# Altium schematic symbol library ee_453_Schulz.SchLib: 69 symbols
Pins are listed as number, name and electrical type; pins without a type are passive.

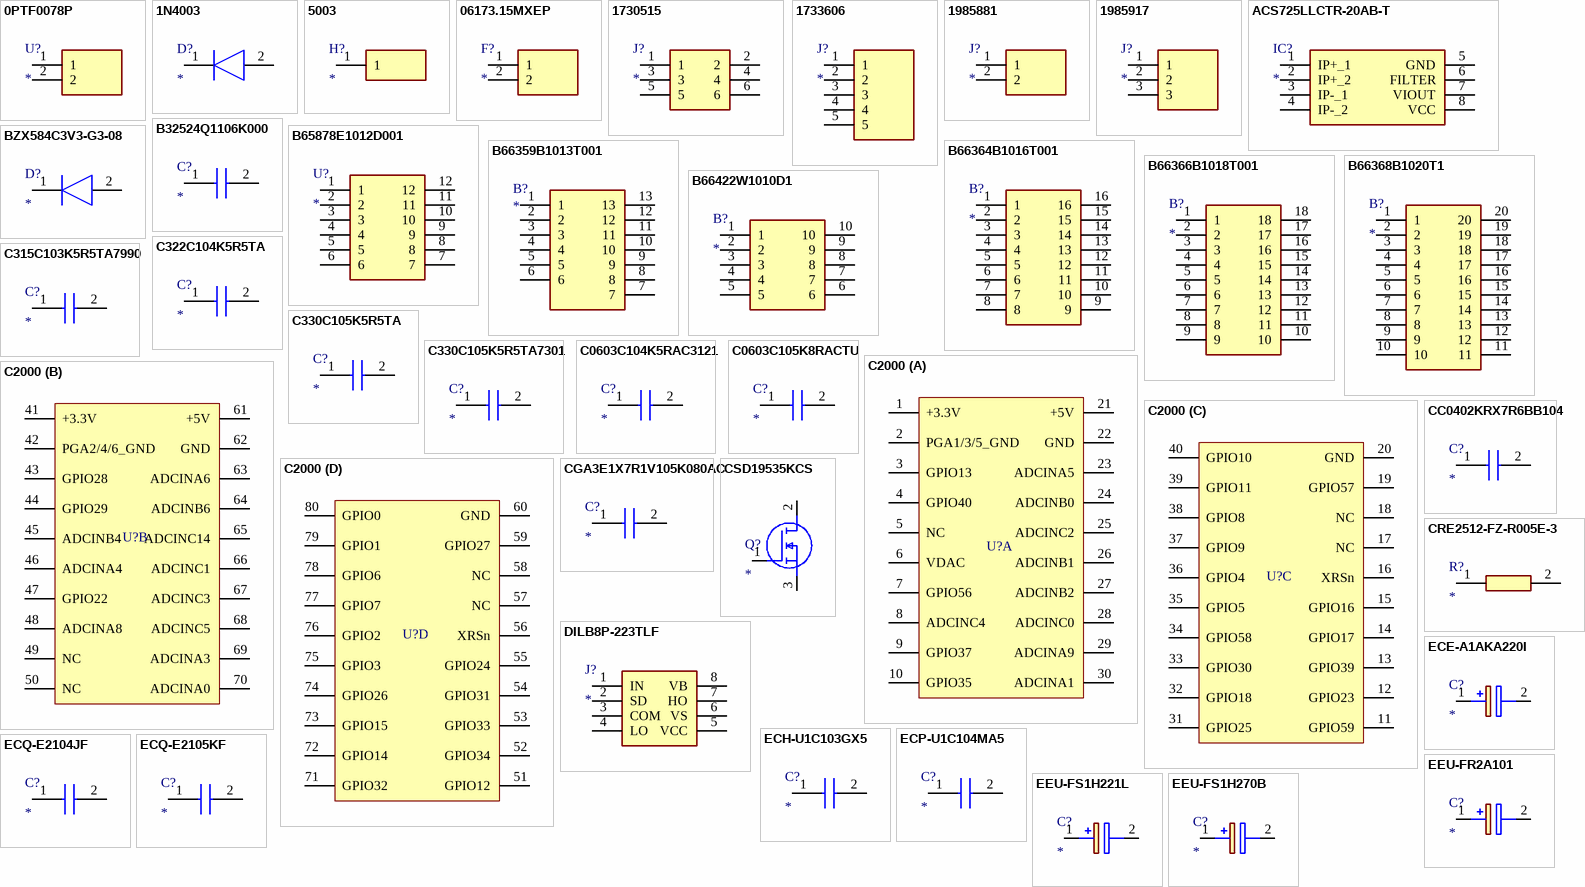
[diagram p0: symbols 0PTF0078P to EEU-FS1H270B]

## 0PTF0078P
designator U?
Undefined or Miscellaneous; Manufacturer_Name: LITTELFUSE; Manufacturer_Part_Number: 0PTF0078P; Datasheet Link: https://media.digikey.com/pdf/Data%20Sheets/Littelfuse%20PDFs/PTF075_77_78.pdf; Height: 11.5mm; Mouser Part Number: 576-0PTF0078P; Mouser Price/Stock: https://www.mouser.com/Search/Refine.aspx?Keyword=576-0PTF0078P; RS Part Number: 1740656; RS Price/Stock: http://uk.rs-online.com/web/p/products/1740656
footprint 0PTF0078P
pins: 1, 2

## 1N4003
designator D?
Diode; Manufacturer_Name: ON Semiconductor; Manufacturer_Part_Number: 1N4003; Datasheet Link: http://docs-emea.rs-online.com/webdocs/10c0/0900766b810c07cd.pdf; Mouser Part Number: 512-1N4003; Mouser Price/Stock: http://www.mouser.com/Search/ProductDetail.aspx?qs=PKwgOmPR8%252bn6tj%252bW%252bQZQFA%3d%3d; RS Part Number: 7596674P; RS Price/Stock: http://uk.rs-online.com/web/p/products/7596674P
footprint DIOAD1413W86L463D238
pins: 1 K, 2 A

## 5003
designator H?
Hardware; Manufacturer_Name: Keystone Electronics; Manufacturer_Part_Number: 5003; Allied_Number: 70799414; Datasheet Link: https://componentsearchengine.com/Datasheets/1/5003.pdf; Height: 4.57mm; Mouser Part Number: 534-5003; Mouser Price/Stock: https://www.mouser.com/Search/Refine.aspx?Keyword=534-5003; Allied Price/Stock: https://www.alliedelec.com/keystoneelectronics-5003/70799414/
footprint 5003
pins: 1

## 06173.15MXEP
designator F?
Fuse; Manufacturer_Name: LITTELFUSE; Manufacturer_Part_Number: 06173.15MXEP; Datasheet Link: https://componentsearchengine.com/Datasheets/1/06173.15MXEP.pdf; Height: 5.8mm; Mouser Part Number: 576-06173.15MXEP; Mouser Price/Stock: https://www.mouser.com/Search/Refine.aspx?Keyword=576-06173.15MXEP
footprint 0617315MXEP
pins: 1, 2

## 1730515
designator J?
Connector; Manufacturer_Name: Phoenix Contact; Manufacturer_Part_Number: 1730515; Allied_Number: 71065041; Datasheet Link: https://media.digikey.com/PDF/Data%20Sheets/Phoenix%20Contact%20PDFs/1730515.pdf; Height: 18mm; Mouser Part Number: 651-1730515; Mouser Price/Stock: https://www.mouser.com/Search/Refine.aspx?Keyword=651-1730515; Allied Price/Stock: https://www.alliedelec.com/phoenixcontact-1730515/71065041/
footprint 1730515
pins: 1, 2, 3, 4, 5, 6

## 1733606
designator J?
Connector; Manufacturer_Name: Phoenix Contact; Manufacturer_Part_Number: 1733606; Datasheet Link: https://www.phoenixcontact.com/online/portal/gb/?uri=pxc-oc-itemdetail:pid=1733606&library=gben&pcck=P-11-01-05&tab=1&selectedCategory=ALL; Height: 15.3mm; Mouser Part Number: 651-1733606; Mouser Price/Stock: https://www.mouser.com/Search/Refine.aspx?Keyword=651-1733606; RS Part Number: 8818799; RS Price/Stock: https://uk.rs-online.com/web/p/products/8818799
footprint SHDR5W110P0X500_1X5_2532X7360X1530P
pins: 1, 2, 3, 4, 5

## 1985881
designator J?
Connector; Manufacturer_Name: Phoenix Contact; Manufacturer_Part_Number: 1985881; Allied_Number: 70353630; Datasheet Link: https://www.phoenixcontact.com/online/portal/us?uri=pxc-oc-itemdetail:pid=1985881&library=usen&tab=1; Height: 13.9mm; Mouser Part Number: 651-1985881; Mouser Price/Stock: https://www.mouser.com/Search/Refine.aspx?Keyword=651-1985881; RS Part Number: 4670338; RS Price/Stock: http://uk.rs-online.com/web/p/products/4670338; Allied Price/Stock: https://www.alliedelec.com/phoenixcontact-1985881/70353630/
footprint SHDR2W110P0X500_1X2_1000X985X1390P
pins: 1, 2

## 1985917
designator J?
Connector; Manufacturer_Name: Phoenix Contact; Manufacturer_Part_Number: 1985917; Allied_Number: 70353658; Datasheet Link: https://media.digikey.com/pdf/Data%20Sheets/Phoenix%20Contact%20PDFs/Multi-Postion%20PCTerminal%20Blocks.pdf; Height: 13.95mm; Mouser Part Number: 651-1985917; Mouser Price/Stock: https://www.mouser.com/Search/Refine.aspx?Keyword=651-1985917; RS Part Number: 8552938; RS Price/Stock: http://uk.rs-online.com/web/p/products/8552938; Allied Price/Stock: https://www.alliedelec.com/phoenixcontact-1985917/70353658/
footprint 1985917
pins: 1, 2, 3

## ACS725LLCTR-20AB-T
designator IC?
Integrated Circuit; Manufacturer_Name: Allegro Microsystems; Manufacturer_Part_Number: ACS725LLCTR-20AB-T; Datasheet Link: https://www.allegromicro.com/~/media/Files/Datasheets/ACS725-Datasheet.ashx; Height: 1.75mm
footprint SOT127P600X175-8N
pins: 1 IP+_1, 2 IP+_2, 3 IP-_1, 4 IP-_2, 5 GND, 6 FILTER, 7 VIOUT, 8 VCC

## B32524Q1106K000
designator C?
Capacitor; Manufacturer_Name: EPCOS; Manufacturer_Part_Number: B32524Q1106K000; Datasheet Link: https://componentsearchengine.com/Datasheets/1/B32524Q1106K000.pdf; Height: 21mm; Mouser Part Number: 871-B32524Q1106K; Mouser Price/Stock: https://www.mouser.com/Search/Refine.aspx?Keyword=871-B32524Q1106K; RS Part Number: 1913137P; RS Price/Stock: http://uk.rs-online.com/web/p/products/1913137P
footprint B32524Q1106K000
pins: 1, 2

## B65878E1012D001
designator U?
Undefined or Miscellaneous; Manufacturer_Name: EPCOS; Manufacturer_Part_Number: B65878E1012D001; Datasheet Link: http://www.mouser.com/datasheet/2/400/pq_26_25-1280911.pdf; Height: 29.3mm; Mouser Part Number: 871-B65878E1012D001; Mouser Price/Stock: https://www.mouser.com/Search/Refine.aspx?Keyword=871-B65878E1012D001; RS Part Number: 1253423; RS Price/Stock: http://uk.rs-online.com/web/p/products/1253423
footprint B65878E1012D001
pins: 1, 2, 3, 4, 5, 6, 7, 8, 9, 10, 11, 12

## B66359B1013T001
designator B?
Bobbin; Manufacturer_Name: EPCOS; Manufacturer_Part_Number: B66359B1013T001; Datasheet Link: https://componentsearchengine.com/Datasheets/1/B66359B1013T001.pdf; Height: 25mm; Mouser2 Part Number: 871-B66359B1013T001; Mouser2 Price/Stock: https://www.mouser.com/Search/Refine.aspx?Keyword=871-B66359B1013T001
footprint B66359B1013T001
pins: 1, 2, 3, 4, 5, 6, 7, 8, 9, 10, 11, 12, 13

## B66364B1016T001
designator B?
Bobbin; Manufacturer_Name: EPCOS; Manufacturer_Part_Number: B66364B1016T001; Datasheet Link: https://componentsearchengine.com/Datasheets/1/B66364B1016T001.pdf; Height: 35.5mm; Mouser2 Part Number: 871-B66364B1016T001; Mouser2 Price/Stock: https://www.mouser.com/Search/Refine.aspx?Keyword=871-B66364B1016T001
footprint B66364B1016T001
pins: 1, 2, 3, 4, 5, 6, 7, 8, 9, 10, 11, 12, 13, 14, 15, 16

## B66366B1018T001
designator B?
Bobbin; Manufacturer_Name: EPCOS; Manufacturer_Part_Number: B66366B1018T001; Datasheet Link: http://uk.rs-online.com/web/p/products/1620179; Height: 38.4mm; RS Part Number: 1620179; RS Price/Stock: http://uk.rs-online.com/web/p/products/1620179
footprint B66366B1018T001
pins: 1, 2, 3, 4, 5, 6, 7, 8, 9, 10, 11, 12, 13, 14, 15, 16, 17, 18

## B66368B1020T1
designator B?
Bobbin; Manufacturer_Name: EPCOS; Manufacturer_Part_Number: B66368B1020T1; Datasheet Link: https://componentsearchengine.com/Datasheets/1/B66368B1020T1.pdf; Height: 40.9mm; Mouser2 Part Number: 871-B66368B1020T1; Mouser2 Price/Stock: https://www.mouser.com/Search/Refine.aspx?Keyword=871-B66368B1020T1
footprint B66368B1020T1
pins: 1, 2, 3, 4, 5, 6, 7, 8, 9, 10, 11, 12, 13, 14, 15, 16, 17, 18, 19, 20

## B66422W1010D1
designator B?
Bobbin; Manufacturer_Name: EPCOS; Manufacturer_Part_Number: B66422W1010D1; Datasheet Link: https://componentsearchengine.com/Datasheets/1/B66422W1010D1.pdf; Height: 12mm; Mouser2 Part Number: 871-B66422W1010D1; Mouser2 Price/Stock: https://www.mouser.com/Search/Refine.aspx?Keyword=871-B66422W1010D1
footprint B66422W1010D1
pins: 1, 2, 3, 4, 5, 6, 7, 8, 9, 10

## BZX584C3V3-G3-08
designator D?
Diode; Manufacturer_Name: Vishay; Manufacturer_Part_Number: BZX584C3V3-G3-08; Datasheet Link: https://componentsearchengine.com/Datasheets/1/BZX584C3V3-G3-08.pdf; Height: 0.75mm; Mouser Part Number: 78-BZX584C3V3-G3-08; Mouser Price/Stock: https://www.mouser.com/Search/Refine.aspx?Keyword=78-BZX584C3V3-G3-08
footprint SODFL1608X75N
pins: 1 K, 2 A

## C315C103K5R5TA7990
designator C?
Capacitor; Manufacturer_Name: Kemet; Manufacturer_Part_Number: C315C103K5R5TA7990; Datasheet Link: https://api.kemet.com/component-edge/download/datasheet/C315C103K5R5TA.pdf; Height: 4.66mm; Mouser Part Number: N/A; Mouser Price/Stock: https://www.mouser.com/Search/Refine.aspx?Keyword=N%2FA
footprint C315C103K5R5TA7990
pins: 1, 2

## C322C104K5R5TA
designator C?
Capacitor; Manufacturer_Name: Kemet; Manufacturer_Part_Number: C322C104K5R5TA; Datasheet Link: https://docs-emea.rs-online.com/webdocs/1517/0900766b815170eb.pdf; Mouser Part Number: 80-C322C104K5R; Mouser Price/Stock: https://www.mouser.com/Search/Refine.aspx?Keyword=80-C322C104K5R; RS Part Number: 5381433P; RS Price/Stock: http://uk.rs-online.com/web/p/products/5381433P
footprint C322 (Footprint not found)
pins: 1, 2

## C330C105K5R5TA
designator C?
Capacitor; Manufacturer_Name: Kemet; Manufacturer_Part_Number: C330C105K5R5TA; Datasheet Link: http://uk.rs-online.com/web/p/products/8704038; Height: 9mm; Mouser Part Number: 80-C330C105K5R; Mouser Price/Stock: https://www.mouser.com/Search/Refine.aspx?Keyword=80-C330C105K5R; RS Part Number: 8704038; RS Price/Stock: http://uk.rs-online.com/web/p/products/8704038
footprint C330C105K5R5TA
pins: 1, 2

## C330C105K5R5TA7301
designator C?
Capacitor; Manufacturer_Name: Kemet; Manufacturer_Part_Number: C330C105K5R5TA7301; Datasheet Link: https://api.kemet.com/component-edge/download/specsheet/C330C105K5R5TA7301.pdf; Height: 9.14mm; Mouser Part Number: 80-C330C105K5R7301; Mouser Price/Stock: https://www.mouser.com/Search/Refine.aspx?Keyword=80-C330C105K5R7301
footprint C330C105K5R5TA7301
pins: 1, 2

## C0603C104K5RAC3121
designator C?
Capacitor; Manufacturer_Name: Kemet; Manufacturer_Part_Number: C0603C104K5RAC3121; Datasheet Link: https://mouser.componentsearchengine.com/Datasheets/1/C0603C104K5RAC3121.pdf; Height: 0.95mm; Mouser Part Number: 80-C603C104K5RAC3121; Mouser Price/Stock: https://www.mouser.com/Search/Refine.aspx?Keyword=80-C603C104K5RAC3121
footprint CAPC1608X95N
pins: 1, 2

## C0603C105K8RACTU
designator C?
Capacitor; Manufacturer_Name: Kemet; Manufacturer_Part_Number: C0603C105K8RACTU; Datasheet Link: https://componentsearchengine.com/Datasheets/1/C0603C105K8RACTU.pdf; Height: 0.87mm; Mouser Part Number: 80-C0603C105K8R; Mouser Price/Stock: https://www.mouser.com/Search/Refine.aspx?Keyword=80-C0603C105K8R; RS Part Number: 1806417; RS Price/Stock: http://uk.rs-online.com/web/p/products/1806417
footprint CAPC1608X87N
pins: 1, 2

## C2000
designator U?
F280049C; Parameter 1: test 2
footprint PCBComponent_1
footprint C2000
part A pins: 1 +3.3V, 2 PGA1/3/5_GND, 3 GPIO13, 4 GPIO40, 5 NC, 6 VDAC, 7 GPIO56, 8 ADCINC4, 9 GPIO37, 10 GPIO35, 21 +5V, 22 GND, 23 ADCINA5, 24 ADCINB0, 25 ADCINC2, 26 ADCINB1, 27 ADCINB2, 28 ADCINC0, 29 ADCINA9, 30 ADCINA1
part B pins: 41 +3.3V, 42 PGA2/4/6_GND, 43 GPIO28, 44 GPIO29, 45 ADCINB4, 46 ADCINA4, 47 GPIO22, 48 ADCINA8, 49 NC, 50 NC, 61 +5V, 62 GND, 63 ADCINA6, 64 ADCINB6, 65 ADCINC14, 66 ADCINC1, 67 ADCINC3, 68 ADCINC5, 69 ADCINA3, 70 ADCINA0
part C pins: 11 GPIO59, 12 GPIO23, 13 GPIO39, 14 GPIO17, 15 GPIO16, 16 XRSn, 17 NC, 18 NC, 19 GPIO57, 20 GND, 31 GPIO25, 32 GPIO18, 33 GPIO30, 34 GPIO58, 35 GPIO5, 36 GPIO4, 37 GPIO9, 38 GPIO8, 39 GPIO11, 40 GPIO10
part D pins: 51 GPIO12, 52 GPIO34, 53 GPIO33, 54 GPIO31, 55 GPIO24, 56 XRSn, 57 NC, 58 NC, 59 GPIO27, 60 GND, 71 GPIO32, 72 GPIO14, 73 GPIO15, 74 GPIO26, 75 GPIO3, 76 GPIO2, 77 GPIO7, 78 GPIO6, 79 GPIO1, 80 GPIO0

## CC0402KRX7R6BB104
designator C?
Capacitor; Manufacturer_Name: YAGEO (PHYCOMP); Manufacturer_Part_Number: CC0402KRX7R6BB104; Datasheet Link: https://www.mouser.com/datasheet/2/447/UPY-GPHC_X7R_6.3V-to-50V_18-1154002.pdf; Height: 0.55mm; Mouser Part Number: 603-CC402KRX7R6BB104; Mouser Price/Stock: https://www.mouser.com/Search/Refine.aspx?Keyword=603-CC402KRX7R6BB104; RS Part Number: 6698690; RS Price/Stock: http://uk.rs-online.com/web/p/products/6698690
footprint CAPC1005X55N
pins: 1, 2

## CGA3E1X7R1V105K080AC
designator C?
Capacitor; Manufacturer_Name: TDK; Manufacturer_Part_Number: CGA3E1X7R1V105K080AC; Datasheet Link: http://docs-emea.rs-online.com/webdocs/14e9/0900766b814e9125.pdf; Height: 0.9mm; Mouser Part Number: 810-CGA3E1X7R1V105KC; Mouser Price/Stock: https://www.mouser.com/Search/Refine.aspx?Keyword=810-CGA3E1X7R1V105KC; RS Part Number: 1796000; RS Price/Stock: http://uk.rs-online.com/web/p/products/1796000
footprint CAPC1608X90N
pins: 1, 2

## CRE2512-FZ-R005E-3
designator R?
Resistor; Manufacturer_Name: Bourns; Manufacturer_Part_Number: CRE2512-FZ-R005E-3; Allied_Number: 70418758; Datasheet Link: https://www.mouser.com/datasheet/2/54/re-1388683.pdf; Height: 0.7mm; Mouser Part Number: 652-CRE2512FZR005E-3; Mouser Price/Stock: https://www.mouser.com/Search/Refine.aspx?Keyword=652-CRE2512FZR005E-3; RS Part Number: 1825562P; RS Price/Stock: http://uk.rs-online.com/web/p/products/1825562P; Allied Price/Stock: https://www.alliedelec.com/bourns-cre2512-fz-r005e-3/70418758/
footprint CRE2512FZR005E3
pins: 1, 2

## CSD19535KCS
designator Q?
MOSFET (N-Channel); Manufacturer_Name: Texas Instruments; Manufacturer_Part_Number: CSD19535KCS; Datasheet Link: http://www.ti.com/lit/gpn/csd19535kcs; Height: 4.7mm; Mouser Part Number: 595-CSD19535KCS; Mouser Price/Stock: https://www.mouser.com/Search/Refine.aspx?Keyword=595-CSD19535KCS; RS Part Number: 8274915P; RS Price/Stock: http://uk.rs-online.com/web/p/products/8274915P
footprint TO254P470X1016X2016-3P
pins: 1 G, 2 D, 3 S

## DILB8P-223TLF
designator J?
Connector; Manufacturer_Name: Amphenol; Manufacturer_Part_Number: DILB8P-223TLF; Datasheet Link: https://componentsearchengine.com/Datasheets/1/DILB8P-223TLF.pdf; Height: 5.25mm; Mouser2 Part Number: 649-DILB8P223TLF; Mouser2 Price/Stock: https://www.mouser.com/Search/Refine.aspx?Keyword=649-DILB8P223TLF
footprint DIPS762W60P254L1016H525Q8N
pins: 1 IN, 2 SD, 3 COM, 4 LO, 5 VCC, 6 VS, 7 HO, 8 VB

## ECE-A1AKA220I
designator C?
Capacitor Polarised; Manufacturer_Name: Panasonic; Manufacturer_Part_Number: ECE-A1AKA220I; Datasheet Link: https://componentsearchengine.com/Datasheets/1/ECE-A1AKA220I.pdf; Height: 8mm; Mouser Part Number: 667-ECE-A1AKA220I; Mouser Price/Stock: https://www.mouser.com/Search/Refine.aspx?Keyword=667-ECE-A1AKA220I
footprint CAPPRD250W50D800H800
pins: 1 +, 2 -

## ECH-U1C103GX5
designator C?
Capacitor; Manufacturer_Name: Panasonic; Manufacturer_Part_Number: ECH-U1C103GX5; Datasheet Link: http://docs-emea.rs-online.com/webdocs/14b7/0900766b814b7a21.pdf; Height: 1.3mm; Mouser Part Number: 667-ECH-U1C103GX5; Mouser Price/Stock: https://www.mouser.com/Search/Refine.aspx?Keyword=667-ECH-U1C103GX5
footprint CAPC2012X130N
pins: 1, 2

## ECP-U1C104MA5
designator C?
Capacitor; Manufacturer_Name: Panasonic; Manufacturer_Part_Number: ECP-U1C104MA5; Allied_Number: 70349164; Datasheet Link: https://componentsearchengine.com/Datasheets/1/ECP-U1C104MA5.pdf; Height: 1.1mm; Mouser Part Number: 667-ECP-U1C104MA5; Mouser Price/Stock: https://www.mouser.com/Search/Refine.aspx?Keyword=667-ECP-U1C104MA5; Allied Price/Stock: https://www.alliedelec.com/panasonic-ecpu1c104ma5/70349164/
footprint CAPC2012X110N
pins: 1, 2

## ECQ-E2104JF
designator C?
Capacitor; Manufacturer_Name: Panasonic; Manufacturer_Part_Number: ECQ-E2104JF; Allied_Number: 70260012; Datasheet Link: http://industrial.panasonic.com/www-cgi/jvcr13pz.cgi?E+PZ+4+ABD0023+ECQE2104JF+8+WW; Height: 13.4mm; Mouser Part Number: 667-ECQ-E2104JF; Mouser Price/Stock: https://www.mouser.com/Search/Refine.aspx?Keyword=667-ECQ-E2104JF; Allied Price/Stock: https://www.alliedelec.com/panasonic-ecq-e2104jf/70260012/
footprint ECQE2104JF
pins: 1, 2

## ECQ-E2105KF
designator C?
Capacitor; Manufacturer_Name: Panasonic; Manufacturer_Part_Number: ECQ-E2105KF; Datasheet Link: https://industrial.panasonic.com/cdbs/www-data/pdf/RDI0000/ABD0000C179.pdf; Height: 15mm; Mouser Part Number: 667-ECQ-E2105KF; Mouser Price/Stock: https://www.mouser.com/Search/Refine.aspx?Keyword=667-ECQ-E2105KF
footprint ECQE2105KF
pins: 1, 2

## EEU-FR2A101
designator C?
Capacitor Polarised; Manufacturer_Name: Panasonic; Manufacturer_Part_Number: EEU-FR2A101; Datasheet Link: https://industrial.panasonic.com/cdbs/www-data/pdf/RDF0000/ABA0000C1259.pdf; Height: 22mm; Mouser Part Number: 667-EEU-FR2A101; Mouser Price/Stock: https://www.mouser.com/Search/Refine.aspx?Keyword=667-EEU-FR2A101
footprint CAPPRD500W65D1000H2200
pins: 1 +, 2 -

## EEU-FS1H221L
designator C?
Capacitor Polarised; Manufacturer_Name: Panasonic; Manufacturer_Part_Number: EEU-FS1H221L; Datasheet Link: https://componentsearchengine.com/Datasheets/1/EEU-FS1H221L.pdf; Height: 22mm; Mouser Part Number: 667-EEU-FS1H221L; Mouser Price/Stock: https://www.mouser.com/Search/Refine.aspx?Keyword=667-EEU-FS1H221L
footprint CAPPRD350W65D800H2200
pins: 1 +, 2 -

## EEU-FS1H270B
designator C?
Capacitor Polarised; Manufacturer_Name: Panasonic; Manufacturer_Part_Number: EEU-FS1H270B; Datasheet Link: https://componentsearchengine.com/Datasheets/1/EEU-FS1H270B.pdf; Height: 12.5mm; Mouser Part Number: 667-EEU-FS1H270B; Mouser Price/Stock: https://www.mouser.com/Search/Refine.aspx?Keyword=667-EEU-FS1H270B
footprint CAPPRD200W55D500H1250
pins: 1 +, 2 -

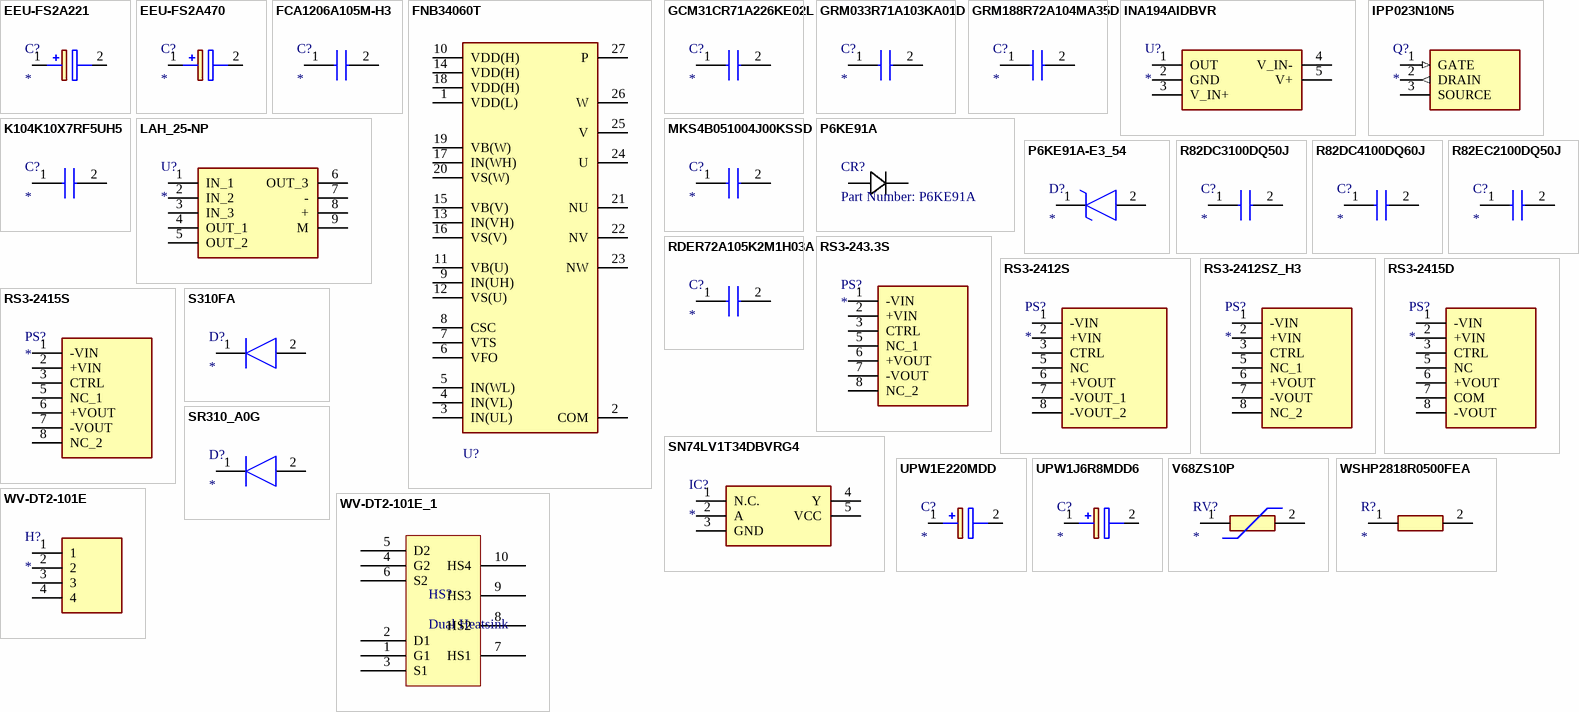
[diagram p1: symbols EEU-FS2A221 to WV-DT2-101E_1]

## EEU-FS2A221
designator C?
Capacitor Polarised; Manufacturer_Name: Panasonic; Manufacturer_Part_Number: EEU-FS2A221; Datasheet Link: https://industrial.panasonic.com/cdbs/www-data/pdf/RDF0000/ABA0000C1255.pdf; Height: 27mm; Mouser Part Number: 667-EEU-FS2A221; Mouser Price/Stock: https://www.mouser.com/Search/Refine.aspx?Keyword=667-EEU-FS2A221
footprint CAPPRD500W65D1250H2700
pins: 1 +, 2 -

## EEU-FS2A470
designator C?
Capacitor Polarised; Manufacturer_Name: Panasonic; Manufacturer_Part_Number: EEU-FS2A470; Datasheet Link: https://componentsearchengine.com/Datasheets/1/EEU-FS2A470.pdf; Height: 16.5mm; Mouser Part Number: 667-EEU-FS2A470; Mouser Price/Stock: https://www.mouser.com/Search/Refine.aspx?Keyword=667-EEU-FS2A470
footprint CAPPRD350W65D800H1650
pins: 1 +, 2 -

## FCA1206A105M-H3
designator C?
Capacitor; Manufacturer_Name: Cornell Dubilier; Manufacturer_Part_Number: FCA1206A105M-H3; Datasheet Link: http://www.cde.com/resources/catalogs/FCA.pdf; Height: 1.6mm; Mouser Part Number: 598-FCA1206A105M-H3; Mouser Price/Stock: https://www.mouser.com/Search/Refine.aspx?Keyword=598-FCA1206A105M-H3
footprint CAPC3216X160N
pins: 1, 2

## FNB34060T
designator U?  (value not drawn)
footprint FNB34060T
pins: 1 VDD(L) (power), 2 COM (power), 3 IN(UL), 4 IN(VL), 5 IN(WL), 6 VFO, 7 VTS, 8 CSC, 9 IN(UH), 10 VDD(H) (power), 11 VB(U) (power), 12 VS(U) (power), 13 IN(VH), 14 VDD(H) (power), 15 VB(V) (power), 16 VS(V) (power), 17 IN(WH), 18 VDD(H) (power), 19 VB(W) (power), 20 VS(W) (power), 21 NU, 22 NV, 23 NW, 24 U, 25 V, 26 W, 27 P

## GCM31CR71A226KE02L
designator C?
Capacitor; Manufacturer_Name: Murata Electronics; Manufacturer_Part_Number: GCM31CR71A226KE02L; Datasheet Link: https://psearch.en.murata.com/capacitor/product/GCM31CR71A226KE02%23.html; Height: 1.8mm; Mouser Part Number: 81-GCM31CR71A226KE2L; Mouser Price/Stock: https://www.mouser.com/Search/Refine.aspx?Keyword=81-GCM31CR71A226KE2L
footprint CAPC3116X180N
pins: 1, 2

## GRM033R71A103KA01D
designator C?
Capacitor; Manufacturer_Name: Murata Electronics; Manufacturer_Part_Number: GRM033R71A103KA01D; Datasheet Link: https://psearch.en.murata.com/capacitor/product/GRM033R71A103KA01%23.html; Height: 0.33mm; Mouser Part Number: 81-GRM033R71A103KA1D; Mouser Price/Stock: https://www.mouser.com/Search/Refine.aspx?Keyword=81-GRM033R71A103KA1D; RS Part Number: 7235143P; RS Price/Stock: http://uk.rs-online.com/web/p/products/7235143P
footprint CAPC0603X33N
pins: 1, 2

## GRM188R72A104MA35D
designator C?
Capacitor; Manufacturer_Name: Murata Electronics; Manufacturer_Part_Number: GRM188R72A104MA35D; Height: 0.9mm; Mouser Part Number: 81-GRM188R72A104MA5D; Mouser Price/Stock: https://www.mouser.com/Search/Refine.aspx?Keyword=81-GRM188R72A104MA5D
footprint CAPC1608X90N
pins: 1, 2

## INA194AIDBVR
designator U?
Integrated Circuit; Manufacturer_Name: Texas Instruments; Manufacturer_Part_Number: INA194AIDBVR; Datasheet Link: http://www.ti.com/lit/gpn/ina194; Height: 1.45mm
footprint SOT95P280X145-5N
pins: 1 OUT, 2 GND, 3 V_IN+, 4 V_IN-, 5 V+

## IPP023N10N5
designator Q?
Transistor; Manufacturer_Name: Infineon; Manufacturer_Part_Number: IPP023N10N5; Datasheet Link: https://www.infineon.com/dgdl/Infineon-IPP023N10N5-DS-v02_03-EN.pdf?fileId=5546d461454603990145d5a675f86494; Height: 4.57mm; Mouser Part Number: 726-IPP023N10N5; Mouser Price/Stock: https://www.mouser.com/Search/Refine.aspx?Keyword=726-IPP023N10N5
footprint TO254P457X1003X2115-3P
pins: 1 GATE (in), 2 DRAIN (out), 3 SOURCE (power)

## K104K10X7RF5UH5
designator C?
Capacitor; Manufacturer_Name: Vishay; Manufacturer_Part_Number: K104K10X7RF5UH5; Datasheet Link: https://www.vishay.com/docs/45171/kseries.pdf; Height: 6.2mm; Mouser Part Number: 594-K104K10X7RF5UH5; Mouser Price/Stock: https://www.mouser.com/Search/Refine.aspx?Keyword=594-K104K10X7RF5UH5
footprint K104K10X7RF5UH5
pins: 1, 2

## LAH_25-NP
designator U?
Integrated Circuit; Manufacturer_Name: LEM; Manufacturer_Part_Number: LAH 25-NP; Datasheet Link: http://www.lem.com/docs/products/lah_25-np.pdf
footprint LAH-25-NP
pins: 1 IN_1, 2 IN_2, 3 IN_3, 4 OUT_1, 5 OUT_2, 6 OUT_3, 7 -, 8 +, 9 M

## MKS4B051004J00KSSD
designator C?
Capacitor; Manufacturer_Name: WIMA; Manufacturer_Part_Number: MKS4B051004J00KSSD; Datasheet Link: https://www.mouser.com/datasheet/2/440/e_WIMA_MKS_4-1139797.pdf; Height: 16mm; Mouser Part Number: 505-MKS410/50/10; Mouser Price/Stock: https://www.mouser.com/Search/Refine.aspx?Keyword=505-MKS410%2F50%2F10
footprint MKS4B051004J00KSSD
pins: 1, 2

## P6KE91A
designator CR?, comment Part Number: P6KE91A
No Description Available; Vendor: Littelfuse Inc; Built_By: EMA_UL_Team; Type: DEV; Manufacturer_Part_Number: P6KE91A; Copyright: Copyright (C) 2018 Accelerated Designs. All rights reserved; RefDes: RefDes; Value: Value
footprint P6KESeries
pins: 1, 2

## P6KE91A-E3_54
designator D?
TVS Diode (Uni-directional); Manufacturer_Name: Vishay; Manufacturer_Part_Number: P6KE91A-E3/54; Datasheet Link: https://www.mouser.com/datasheet/2/427/p6ke-1767850.pdf
footprint DIOAD1910W86L670D310
pins: 1 K, 2 A

## R82DC3100DQ50J
designator C?
Capacitor; Manufacturer_Name: Kemet; Manufacturer_Part_Number: R82DC3100DQ50J; Allied_Number: 70037791; Datasheet Link: http://www.farnell.com/datasheets/2259001.pdf; Mouser Part Number: 80-R82DC3100DQ50J; Mouser Price/Stock: https://www.mouser.com/Search/Refine.aspx?Keyword=80-R82DC3100DQ50J; RS Part Number: 3121469P; RS Price/Stock: http://uk.rs-online.com/web/p/products/3121469P; Allied Price/Stock: https://www.alliedelec.com/kemet-r82dc3100dq50j/70037791/
footprint R82(7.2X2.5)
pins: 1, 2

## R82DC4100DQ60J
designator C?
Capacitor; Manufacturer_Name: Kemet; Manufacturer_Part_Number: R82DC4100DQ60J; Allied_Number: 70037793; Datasheet Link: https://content.kemet.com/datasheets/KEM_F3101_R82.pdf; Height: 10.1mm; Mouser Part Number: 80-R82DC4100DQ60J; Mouser Price/Stock: https://www.mouser.com/Search/Refine.aspx?Keyword=80-R82DC4100DQ60J; RS Part Number: 8708834; RS Price/Stock: http://uk.rs-online.com/web/p/products/8708834; Allied Price/Stock: https://www.alliedelec.com/kemet-r82dc4100dq60j/70037793/
footprint R82DC4100DQ60J
pins: 1, 2

## R82EC2100DQ50J
designator C?
Capacitor; Manufacturer_Name: Kemet; Manufacturer_Part_Number: R82EC2100DQ50J; Allied_Number: 70037796; Datasheet Link: http://docs-emea.rs-online.com/webdocs/1529/0900766b81529050.pdf; Mouser Part Number: 80-R82EC2100DQ50J; Mouser Price/Stock: https://www.mouser.com/Search/Refine.aspx?Keyword=80-R82EC2100DQ50J; RS Part Number: 3121431P; RS Price/Stock: http://uk.rs-online.com/web/p/products/3121431P; Allied Price/Stock: https://www.alliedelec.com/kemet-r82ec2100dq50j/70037796/
footprint R82(7.2X2.5)
pins: 1, 2

## RDER72A105K2M1H03A
designator C?
Capacitor; Manufacturer_Name: Murata Electronics; Manufacturer_Part_Number: RDER72A105K2M1H03A; Datasheet Link: https://psearch.en.murata.com/capacitor/product/RDER72A105K2M1H03A.html; Height: 5.5mm; Mouser Part Number: 81-RDER72A105K2M1H3A; Mouser Price/Stock: https://www.mouser.com/Search/Refine.aspx?Keyword=81-RDER72A105K2M1H3A; RS Part Number: 1504005; RS Price/Stock: http://uk.rs-online.com/web/p/products/1504005
footprint RCE5C1H104J2A2H03B
pins: 1, 2

## RS3-243.3S
designator PS?
Power Supply; Manufacturer_Name: RECOM Power; Manufacturer_Part_Number: RS3-243.3S; Datasheet Link: https://www.arrow.com/en/products/rs3-243.3s/recom-power; Height: 11.35mm; Mouser Part Number: 919-RS3-243.3S; Mouser Price/Stock: https://www.mouser.com/Search/Refine.aspx?Keyword=919-RS3-243.3S; RS Part Number: 0163748P; RS Price/Stock: http://uk.rs-online.com/web/p/products/0163748P
footprint RS32433S
pins: 1 -VIN, 2 +VIN, 3 CTRL, 5 NC_1, 6 +VOUT, 7 -VOUT, 8 NC_2

## RS3-2412S
designator PS?
Power Supply; Manufacturer_Name: RECOM Power; Manufacturer_Part_Number: RS3-2412S; Datasheet Link: https://www.recom-power.com/pdf/Econoline/RS3-S_D_Z.pdf; Mouser Part Number: 919-RS3-2412S; Mouser Price/Stock: https://www.mouser.com/Search/Refine.aspx?Keyword=919-RS3-2412S; RS Part Number: 1669097; RS Price/Stock: https://uk.rs-online.com/web/p/products/1669097
footprint RS32415S
pins: 1 -VIN, 2 +VIN, 3 CTRL, 5 NC, 6 +VOUT, 7 -VOUT_1, 8 -VOUT_2

## RS3-2412SZ_H3
designator PS?
Power Supply; Manufacturer_Name: RECOM Power; Manufacturer_Part_Number: RS3-2412SZ/H3; Datasheet Link: https://www.elpro.org/de/index.php?controller=attachment&id_attachment=8566; Height: 11.35mm; Mouser Part Number: 919-RS3-2412SZ/H3; Mouser Price/Stock: https://www.mouser.com/Search/Refine.aspx?Keyword=919-RS3-2412SZ%2FH3; RS Part Number: 1668891; RS Price/Stock: https://uk.rs-online.com/web/p/products/1668891
footprint RS32405DH3
pins: 1 -VIN, 2 +VIN, 3 CTRL, 5 NC_1, 6 +VOUT, 7 -VOUT, 8 NC_2

## RS3-2415D
designator PS?
Power Supply; Manufacturer_Name: RECOM Power; Manufacturer_Part_Number: RS3-2415D; Allied_Number: 70052275; Datasheet Link: https://www.recom-power.com/pdf/Econoline/RS3-S_D_Z.pdf; Height: 11.35mm; Mouser Part Number: 919-RS3-2415D; Mouser Price/Stock: https://www.mouser.com/Search/Refine.aspx?Keyword=919-RS3-2415D; RS Part Number: 1669089; RS Price/Stock: https://uk.rs-online.com/web/p/products/1669089; Allied Price/Stock: https://www.alliedelec.com/recom-power-inc-rs3-2415d/70052275/
footprint RS32405DH3
pins: 1 -VIN, 2 +VIN, 3 CTRL, 5 NC, 6 +VOUT, 7 COM, 8 -VOUT

## RS3-2415S
designator PS?
Power Supply; Manufacturer_Name: RECOM Power; Manufacturer_Part_Number: RS3-2415S; Datasheet Link: https://www.recom-power.com/pdf/Econoline/RS3-S_D_Z.pdf; Height: 11.35mm; Mouser Part Number: 919-RS3-2415S; Mouser Price/Stock: https://www.mouser.com/Search/Refine.aspx?Keyword=919-RS3-2415S
footprint RS32415S
pins: 1 -VIN, 2 +VIN, 3 CTRL, 5 NC_1, 6 +VOUT, 7 -VOUT, 8 NC_2

## S310FA
designator D?
Diode; Manufacturer_Name: ON Semiconductor; Manufacturer_Part_Number: S310FA; Datasheet Link: https://eagle.componentsearchengine.com/Datasheets/2/S310FA.pdf; Height: 1.43mm; Mouser Part Number: 512-S310FA; Mouser Price/Stock: https://www.mouser.com/Search/Refine.aspx?Keyword=512-S310FA; RS Part Number: 1841470; RS Price/Stock: http://uk.rs-online.com/web/p/products/1841470
footprint SODFL3618X143N
pins: 1 K, 2 A

## SN74LV1T34DBVRG4
designator IC?
Integrated Circuit; Manufacturer_Name: Texas Instruments; Manufacturer_Part_Number: SN74LV1T34DBVRG4; Datasheet Link: http://www.ti.com/lit/gpn/sn74lv1t34; Height: 1.45mm; Mouser Part Number: 595-SN74LV1T34DBVRG4; Mouser Price/Stock: https://www.mouser.com/Search/Refine.aspx?Keyword=595-SN74LV1T34DBVRG4
footprint SOT95P280X145-5N
pins: 1 N.C., 2 A, 3 GND, 4 Y, 5 VCC

## SR310_A0G
designator D?
Diode; Manufacturer_Name: Taiwan Semiconductor; Manufacturer_Part_Number: SR310 A0G; Datasheet Link: http://www.taiwansemi.com/products/datasheet/SR302%20SERIES_I13.pdf; Mouser Part Number: 821-SR310A0G; Mouser Price/Stock: https://www.mouser.com/Search/Refine.aspx?Keyword=821-SR310A0G
footprint DIOAD3020W130L900D530
pins: 1 K, 2 A

## UPW1E220MDD
designator C?
Capacitor Polarised; Manufacturer_Name: Nichicon; Manufacturer_Part_Number: UPW1E220MDD; Allied_Number: 70187288; Datasheet Link: http://nichicon-us.com/english/products/pdfs/e-upw.pdf; Height: 12.5mm; Mouser Part Number: 647-UPW1E220MDD; Mouser Price/Stock: https://www.mouser.com/Search/Refine.aspx?Keyword=647-UPW1E220MDD; RS Part Number: 7152625P; RS Price/Stock: http://uk.rs-online.com/web/p/products/7152625P; Allied Price/Stock: https://www.alliedelec.com/nichicon-upw1e220mdd/70187288/
footprint CAPPRD200W50D550H1250
pins: 1 +, 2 -

## UPW1J6R8MDD6
designator C?
Capacitor Polarised; Manufacturer_Name: Nichicon; Manufacturer_Part_Number: UPW1J6R8MDD6; Allied_Number: 70187297; Datasheet Link: http://nichicon-us.com/english/products/pdfs/e-upw.pdf; Height: 12.5mm; RS Part Number: 8515424; RS Price/Stock: https://uk.rs-online.com/web/p/products/8515424; Allied Price/Stock: https://www.alliedelec.com/nichicon-upw1j6r8mdd6/70187297/
footprint CAPPRD150W45D425H1250
pins: 1 +, 2 -

## V68ZS10P
designator RV?
Varistor; Manufacturer_Name: LITTELFUSE; Manufacturer_Part_Number: V68ZS10P; Datasheet Link: http://www.littelfuse.com/~/media/electronics/datasheets/varistors/littelfuse_varistor_za_datasheet.pdf.pdf; Height: 20mm
footprint V68ZS10P
footprint V68ZS10P
pins: 1, 2

## WSHP2818R0500FEA
designator R?
Resistor; Manufacturer_Name: Vishay; Manufacturer_Part_Number: WSHP2818R0500FEA; Datasheet Link: https://www.vishay.com/docs/30347/wshp2818.pdf; Height: 1.75mm; Mouser Part Number: 71-WSHP2818R0500FEA; Mouser Price/Stock: https://www.mouser.com/Search/Refine.aspx?Keyword=71-WSHP2818R0500FEA
footprint RESC7146X175N
pins: 1, 2

## WV-DT2-101E
designator H?
Hardware; Manufacturer_Name: Ohmite; Manufacturer_Part_Number: WV-DT2-101E; Allied_Number: 70024600; Datasheet Link: https://componentsearchengine.com/Datasheets/1/WV-DT2-101E.pdf; Height: 32.3mm; Mouser Part Number: 588-WV-DT2-101E; Mouser Price/Stock: https://www.mouser.com/Search/Refine.aspx?Keyword=588-WV-DT2-101E; RS Part Number: 8934926; RS Price/Stock: http://uk.rs-online.com/web/p/products/8934926; Allied Price/Stock: https://www.alliedelec.com/ohmite-wv-dt2-101e/70024600/
footprint WVDT2101E
pins: 1, 2, 3, 4

## WV-DT2-101E_1
designator HS?, comment Dual Heatsink
Heat Sink TO-220, TO-247 (Dual) Aluminum 4.0W @ 40°C Board Level, Vertical
footprint MOSFETsHeatsink
pins: 1 G1, 2 D1, 3 S1, 4 G2, 5 D2, 6 S2, 7 HS1, 8 HS2, 9 HS3, 10 HS4